# Altium footprint library memory-idt.PCBLIB: 54 footprints (part 2 of 4)
Each footprint in its own frame and in the unit in brackets; x right, y up, seen from the top. Pads: shape width x height; smd on the part's side, far side on the other; paste and mask are expansions set on the pad; w line width, h text height; cw(c..) or ccw(c..) is an arc to the next point about the centre after c.
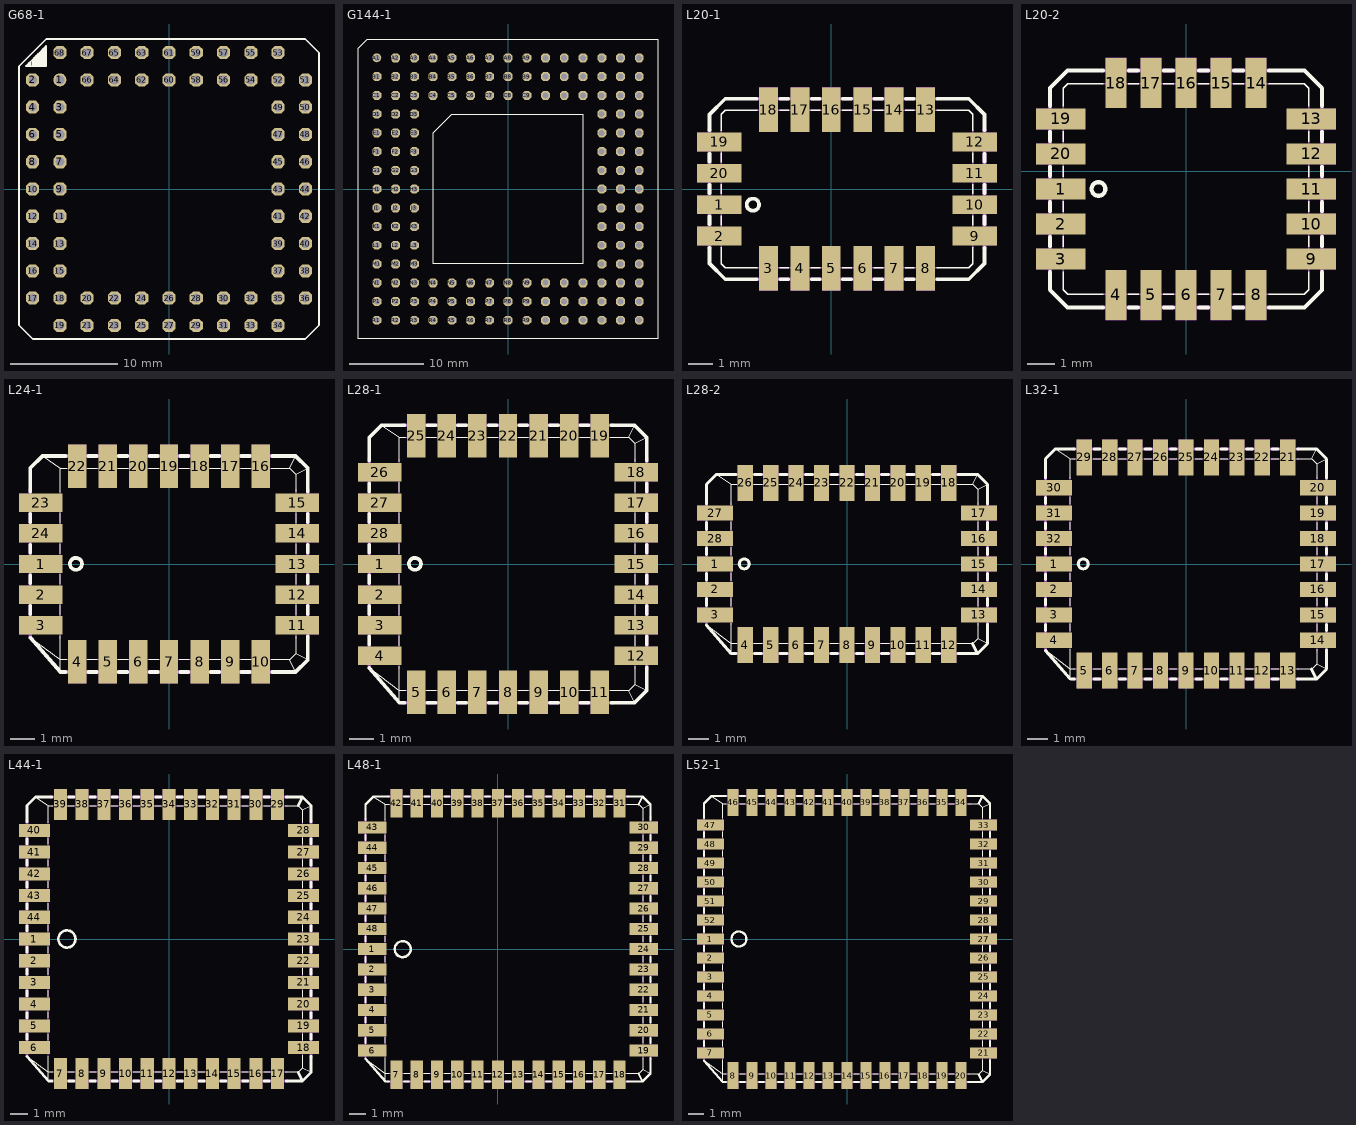
[diagram p1: the footprints below, top view; thin cyan lines are the x and y axes]

## G68-1 [mil]
pads (68):
  round 48 hole 32: 1(-400,400)
  oct 48x48 hole 32: 2(-500,400) 3(-400,300) 4(-500,300) 5(-400,200) 6(-500,200) 7(-400,100) 8(-500,100) 9(-400,0) 10(-500,0) 11(-400,-100) 12(-500,-100) 13(-400,-200) 14(-500,-200) 15(-400,-300) 16(-500,-300) 17(-500,-400) 18(-400,-400) 19(-400,-500) 20(-300,-400) 21(-300,-500) 22(-200,-400) 23(-200,-500) 24(-100,-400) 25(-100,-500) 26(0,-400) 27(0,-500) 28(100,-400) 29(100,-500) 30(200,-400) 31(200,-500) 32(300,-400) 33(300,-500) 34(400,-500) 35(400,-400) 36(500,-400) 37(400,-300) 38(500,-300) 39(400,-200) 40(500,-200) 41(400,-100) 42(500,-100) 43(400,0) 44(500,0) 45(400,100) 46(500,100) 47(400,200) 48(500,200) 49(400,300) 50(500,300) 51(500,400) 52(400,400) 53(400,500) 54(300,400) 55(300,500) 56(200,400) 57(200,500) 58(100,400) 59(100,500) 60(0,400) 61(0,500) 62(-100,400) 63(-100,500) 64(-200,400) 65(-200,500) 66(-300,400) 67(-300,500) 68(-400,500)
Top Overlay:
  lines w6: -518.74,450 -512.5,450 ; -518.74,450 -525,450 -518.74,456.26 ; -518.74,450 -518.74,456.26 ; -518.74,456.26 -512.5,462.5 ; -512.5,450 -506.26,450 ; -512.5,450 -512.5,462.5 ; -512.5,462.5 -506.26,468.74 ; -506.26,450 -500,450 ; -506.26,450 -506.26,468.74 ; -506.26,468.74 -500,475 ; -500,450 -493.74,450 ; -500,450 -500,475 ; -500,475 -493.74,481.26 ; -493.74,450 -487.5,450 ; -493.74,450 -493.74,481.26 ; -493.74,481.26 -487.5,487.5 ; -487.5,450 -481.26,450 ; -487.5,450 -487.5,487.5 ; -487.5,487.5 -481.26,493.74 ; -481.26,450 -475,450 ; -481.26,450 -481.26,493.74 ; -481.26,493.74 -475,500 ; -475,450 -468.74,450 ; -475,450 -475,500 ; -475,500 -468.74,506.26 ; -468.74,450 -462.5,450 ; -468.74,450 -468.74,506.26 ; -468.74,506.26 -462.5,512.5 ; -462.5,450 -456.26,450 ; -462.5,450 -462.5,512.5 ; -462.5,512.5 -456.26,518.74 ; -456.26,450 -450,450 -450,525 -456.26,518.74 ; -456.26,450 -456.26,518.74 ; -550,-500 -500,-550 500,-550 550,-500 550,500 500,550 -450,550 -550,450 -550,-500

## G144-1 [mil]
pads (144):
  round 48 hole 32: A1(-700,700)
  oct 48x48 hole 32: A2(-600,700) A3(-500,700) A4(-400,700) A5(-300,700) A6(-200,700) A7(-100,700) A8(0,700) A9(100,700) A10(200,700) A11(300,700) A12(400,700) A13(500,700) A14(600,700) A15(700,700) B1(-700,600) B2(-600,600) B3(-500,600) B4(-400,600) B5(-300,600) B6(-200,600) B7(-100,600) B8(0,600) B9(100,600) B10(200,600) B11(300,600) B12(400,600) B13(500,600) B14(600,600) B15(700,600) C1(-700,500) C2(-600,500) C3(-500,500) C4(-400,500) C5(-300,500) C6(-200,500) C7(-100,500) C8(0,500) C9(100,500) C10(200,500) C11(300,500) C12(400,500) C13(500,500) C14(600,500) C15(700,500) D1(-700,400) D2(-600,400) D3(-500,400) D13(500,400) D14(600,400) D15(700,400) E1(-700,300) E2(-600,300) E3(-500,300) E13(500,300) E14(600,300) E15(700,300) F1(-700,200) F2(-600,200) F3(-500,200) F13(500,200) F14(600,200) F15(700,200) G1(-700,100) G2(-600,100) G3(-500,100) G13(500,100) G14(600,100) G15(700,100) H1(-700,0) H2(-600,0) H3(-500,0) H13(500,0) H14(600,0) H15(700,0) J1(-700,-100) J2(-600,-100) J3(-500,-100) J13(500,-100) J14(600,-100) J15(700,-100) K1(-700,-200) K2(-600,-200) K3(-500,-200) K13(500,-200) K14(600,-200) K15(700,-200) L1(-700,-300) L2(-600,-300) L3(-500,-300) L13(500,-300) L14(600,-300) L15(700,-300) M1(-700,-400) M2(-600,-400) M3(-500,-400) M13(500,-400) M14(600,-400) M15(700,-400) N1(-700,-500) N2(-600,-500) N3(-500,-500) N4(-400,-500) N5(-300,-500) N6(-200,-500) N7(-100,-500) N8(0,-500) N9(100,-500) N10(200,-500) N11(300,-500) N12(400,-500) N13(500,-500) N14(600,-500) N15(700,-500) P1(-700,-600) P2(-600,-600) P3(-500,-600) P4(-400,-600) P5(-300,-600) P6(-200,-600) P7(-100,-600) P8(0,-600) P9(100,-600) P10(200,-600) P11(300,-600) P12(400,-600) P13(500,-600) P14(600,-600) P15(700,-600) R1(-700,-700) R2(-600,-700) R3(-500,-700) R4(-400,-700) R5(-300,-700) R6(-200,-700) R7(-100,-700) R8(0,-700) R9(100,-700) R10(200,-700) R11(300,-700) R12(400,-700) R13(500,-700) R14(600,-700) R15(700,-700)
Top Overlay:
  lines w6: -800,-800 800,-800 800,800 -750,800 -800,750 -800,-800 ; -400,-400 400,-400 400,400 -300,400 -400,300 -400,-400

## L20-1 [mil]
pads (20):
  rect 70.87x29.92 smd: 1(-178.35,-25) 2(-178.35,-75) 9(228.35,-75) 10(228.35,-25) 11(228.35,25) 12(228.35,75) 19(-178.35,75) 20(-178.35,25)
  rect 29.92x70.87 smd: 3(-100,-125.98) 4(-50,-125.98) 5(0,-125.98) 6(50,-125.98) 7(100,-125.98) 8(150,-125.98) 13(150,125.98) 14(100,125.98) 15(50,125.98) 16(0,125.98) 17(-50,125.98) 18(-100,125.98)
Top Overlay:
  lines w2: -175,-92.64 -175,-118.74 -168.74,-125 -117.76,-125 ; -175,-57.36 -175,-42.64 ; -175,-7.36 -175,7.36 ; -175,42.64 -175,57.36 ; -175,92.64 -175,118.74 -168.74,125 -117.64,125 ; -82.36,-125 -67.64,-125 ; -82.36,125 -67.64,125 ; -32.36,-125 -17.64,-125 ; -32.36,125 -17.64,125 ; 17.64,-125 32.36,-125 ; 17.64,125 32.36,125 ; 67.64,-125 82.36,-125 ; 67.64,125 82.36,125 ; 117.64,-125 132.36,-125 ; 117.64,125 132.36,125 ; 167.64,-125 218.74,-125 225,-118.74 225,-92.64 ; 167.64,125 218.74,125 225,118.74 225,92.64 ; 225,-57.36 225,-42.64 ; 225,-7.36 225,7.36 ; 225,42.64 225,57.36
  lines w6: -193.74,-93.74 -193.74,-118.74 -168.74,-143.74 -118.74,-143.74 ; -193.74,-56.26 -193.74,-43.74 ; -193.74,-6.26 -193.75,6.25 ; -193.75,43.75 -193.75,56.25 ; -193.75,93.75 -193.75,118.75 -168.75,143.75 -118.75,143.75 ; -134.61,-25.16 cw(c-124.77,-25.16) -114.92,-25.16 ; -134.61,-24.84 ccw(c-124.77,-24.84) -114.92,-24.84 ; -81.26,-143.74 -68.74,-143.74 ; -81.25,143.75 -68.75,143.75 ; -31.26,-143.74 -18.74,-143.74 ; -31.25,143.75 -18.75,143.75 ; 18.75,-143.75 31.25,-143.75 ; 18.74,143.74 31.26,143.74 ; 68.75,-143.75 81.25,-143.75 ; 68.74,143.74 81.26,143.74 ; 118.75,-143.75 131.25,-143.75 ; 118.74,143.74 131.26,143.74 ; 168.75,-143.75 218.75,-143.75 243.75,-118.75 243.75,-93.75 ; 168.74,143.74 218.74,143.74 243.74,118.74 243.74,93.74 ; 243.75,-56.25 243.75,-43.75 ; 243.75,-6.25 243.74,6.26 ; 243.74,43.74 243.74,56.26
Mechanical 16:
  rectangle: -114.96,144.88 -85.04,162.6
  rectangle: -64.96,144.88 -35.04,162.6
  rectangle: -14.96,144.88 14.96,162.6
  rectangle: 35.04,144.88 64.96,162.6
  rectangle: 85.04,144.88 114.96,162.6
  rectangle: -114.96,-162.6 -85.04,-144.88
  rectangle: -64.96,-162.6 -35.04,-144.88
  rectangle: -14.96,-162.6 14.96,-144.88
  rectangle: 35.04,-162.6 64.96,-144.88
  rectangle: 85.04,-162.6 114.96,-144.88
  rectangle: 246.06,60.04 263.78,89.96
  rectangle: 246.06,10.04 263.78,39.96
  rectangle: 246.06,-39.96 263.78,-10.04
  rectangle: 246.06,-89.96 263.78,-60.04
  rectangle: -213.78,60.04 -196.06,89.96
  rectangle: -213.78,10.04 -196.06,39.96
  rectangle: -213.78,-39.96 -196.06,-10.04
  rectangle: -213.78,-89.96 -196.06,-60.04
  rectangle: 135.04,144.88 164.96,162.6
  rectangle: 135.04,-162.6 164.96,-144.88
  lines w2: -175,-93.74 -175,93.74 ; -118.74,-125 168.74,-125 ; -118.74,125 168.74,125 ; 225,-93.74 225,93.74
  lines w6: -193.74,-93.74 -193.75,93.75 ; -118.74,-143.74 168.75,-143.75 ; -118.75,143.75 168.74,143.74 ; 37.4,144.88 62.6,144.88 ; 87.4,144.88 112.6,144.88 ; 137.4,144.88 162.6,144.88 ; 243.75,-93.75 243.74,93.74

## L20-2 [mil]
pads (20):
  rect 70.87x29.92 smd: 1(-178.35,-25) 2(-178.35,-75) 3(-178.35,-125) 9(178.35,-125) 10(178.35,-75) 11(178.35,-25) 12(178.35,25) 13(178.35,75) 19(-178.35,75) 20(-178.35,25)
  rect 29.92x70.87 smd: 4(-100,-175.98) 5(-50,-175.98) 6(0,-175.98) 7(50,-175.98) 8(100,-175.98) 14(100,125.98) 15(50,125.98) 16(0,125.98) 17(-50,125.98) 18(-100,125.98)
Top Overlay:
  lines w2: -175,-142.64 -175,-168.74 -168.74,-175 -117.76,-175 ; -175,-107.36 -175,-92.64 ; -175,-57.36 -175,-42.64 ; -175,-7.36 -175,7.36 ; -175,42.64 -175,57.36 ; -175,92.64 -175,118.74 -168.74,125 -117.64,125 ; -82.36,-175 -67.64,-175 ; -82.36,125 -67.64,125 ; -32.36,-175 -17.64,-175 ; -32.36,125 -17.64,125 ; 17.64,-175 32.36,-175 ; 17.64,125 32.36,125 ; 67.64,-175 82.36,-175 ; 67.64,125 82.36,125 ; 117.64,-175 168.74,-175 175,-168.74 175,-142.64 ; 117.64,125 168.74,125 175,118.74 175,92.64 ; 175,-107.36 175,-92.64 ; 175,-57.36 175,-42.64 ; 175,-7.36 175,7.36 ; 175,42.64 175,57.36
  lines w6: -193.74,-143.74 -193.74,-168.74 -168.74,-193.74 -118.74,-193.74 ; -193.74,-106.26 -193.74,-93.74 ; -193.74,-56.26 -193.74,-43.74 ; -193.74,-6.26 -193.75,6.25 ; -193.75,43.75 -193.75,56.25 ; -193.75,93.75 -193.75,118.75 -168.75,143.75 -118.75,143.75 ; -134.61,-25.04 cw(c-124.77,-25.1) -114.92,-25.16 ; -134.61,-24.84 ccw(c-124.77,-24.88) -114.92,-24.92 ; -81.26,-193.74 -68.74,-193.74 ; -81.25,143.75 -68.75,143.75 ; -31.26,-193.74 -18.74,-193.74 ; -31.25,143.75 -18.75,143.75 ; 18.75,-193.75 31.25,-193.75 ; 18.74,143.74 31.26,143.74 ; 68.75,-193.75 81.25,-193.75 ; 68.74,143.74 81.26,143.74 ; 118.75,-193.75 168.75,-193.75 193.75,-168.75 193.75,-143.75 ; 118.74,143.74 168.74,143.74 193.74,118.74 193.74,93.74 ; 193.75,-106.25 193.75,-93.75 ; 193.75,-56.25 193.75,-43.75 ; 193.75,-6.25 193.74,6.26 ; 193.74,43.74 193.74,56.26
Mechanical 16:
  rectangle: -114.96,144.88 -85.04,162.6
  rectangle: -64.96,144.88 -35.04,162.6
  rectangle: -14.96,144.88 14.96,162.6
  rectangle: 35.04,144.88 64.96,162.6
  rectangle: 85.04,144.88 114.96,162.6
  rectangle: -114.96,-212.6 -85.04,-194.88
  rectangle: -64.96,-212.6 -35.04,-194.88
  rectangle: -14.96,-212.6 14.96,-194.88
  rectangle: 35.04,-212.6 64.96,-194.88
  rectangle: 85.04,-212.6 114.96,-194.88
  rectangle: 196.06,60.04 213.78,89.96
  rectangle: 196.06,10.04 213.78,39.96
  rectangle: 196.06,-39.96 213.78,-10.04
  rectangle: 196.06,-89.96 213.78,-60.04
  rectangle: -213.78,60.04 -196.06,89.96
  rectangle: -213.78,10.04 -196.06,39.96
  rectangle: -213.78,-39.96 -196.06,-10.04
  rectangle: -213.78,-89.96 -196.06,-60.04
  rectangle: -213.78,-89.96 -196.06,-60.04
  rectangle: 196.06,-139.96 213.78,-110.04
  rectangle: -213.78,-139.96 -196.06,-110.04
  lines w2: -175,-143.74 -175,93.74 ; -118.74,-175 118.74,-175 ; -118.74,125 118.74,125 ; 175,-143.74 175,93.74
  lines w6: -193.74,-143.74 -193.75,93.75 ; -118.74,-193.74 118.75,-193.75 ; -118.75,143.75 118.74,143.74 ; 37.4,144.88 62.6,144.88 ; 193.75,-143.75 193.74,93.74

## L24-1 [mil]
pads (24):
  rect 70.87x29.92 smd: 1(-209.45,0) 2(-209.45,-50) 3(-209.45,-100) 11(209.45,-100) 12(209.45,-50) 13(209.45,0) 14(209.45,50) 15(209.45,100) 23(-209.45,100) 24(-209.45,50)
  rect 29.92x70.87 smd: 4(-150,-159.45) 5(-100,-159.45) 6(-50,-159.45) 7(0,-159.45) 8(50,-159.45) 9(100,-159.45) 10(150,-159.45) 16(150,159.45) 17(100,159.45) 18(50,159.45) 19(0,159.45) 20(-50,159.45) 21(-100,159.45) 22(-150,159.45)
Top Overlay:
  lines w2: -226.34,-120.12 -177.17,-156.69 ; -206.69,176.38 -177.17,156.69 ; -177.17,-176.38 -177.17,-156.69 ; -177.17,-116.73 -177.17,-156.69 ; -177.17,-83.27 -177.17,-66.73 ; -177.17,-33.27 -177.17,-16.73 ; -177.17,16.73 -177.17,33.27 ; -177.17,66.73 -177.17,83.27 ; -177.17,116.73 -177.17,156.69 ; -166.73,-156.69 -177.17,-156.69 ; -166.73,156.69 -177.17,156.69 ; -133.27,-156.69 -116.73,-156.69 ; -133.27,156.69 -116.73,156.69 ; -83.27,-156.69 -66.73,-156.69 ; -83.27,156.69 -66.73,156.69 ; -33.27,-156.69 -16.73,-156.69 ; -33.27,156.69 -16.73,156.69 ; 16.73,-156.69 33.27,-156.69 ; 16.73,156.69 33.27,156.69 ; 66.73,-156.69 83.27,-156.69 ; 66.73,156.69 83.27,156.69 ; 116.73,-156.69 133.27,-156.69 ; 116.73,156.69 133.27,156.69 ; 166.73,-156.69 196.85,-156.69 ; 166.73,156.69 196.85,156.69 ; 206.69,-176.38 196.85,-156.69 ; 206.69,-116.73 206.69,-146.85 ; 206.69,-83.27 206.69,-66.73 ; 206.69,-33.27 206.69,-16.73 ; 206.69,16.73 206.69,33.27 ; 206.69,66.73 206.69,83.27 ; 206.69,116.73 206.69,146.85 ; 206.69,176.38 196.85,156.69 ; 226.38,-156.69 206.69,-146.85 ; 226.38,156.69 206.69,146.85 ; 196.85,-156.69 206.69,-146.85 ; 196.85,156.69 206.69,146.85
  lines w6: -226.38,-81.69 -226.38,-68.31 ; -226.38,-31.69 -226.38,-18.31 ; -226.38,18.31 -226.38,31.69 ; -226.38,68.31 -226.38,81.69 ; -226.38,118.31 -226.38,156.69 -206.69,176.38 -168.31,176.38 ; -226.18,-120.28 -177.17,-176.38 -168.31,-176.38 ; -161.81,0.16 cw(c-151.97,0.1) -142.13,0.04 ; -161.81,0.35 ccw(c-151.97,0.32) -142.13,0.28 ; -131.69,-176.38 -118.31,-176.38 ; -131.69,176.38 -118.31,176.38 ; -81.69,-176.38 -68.31,-176.38 ; -81.69,176.38 -68.31,176.38 ; -31.69,-176.38 -18.31,-176.38 ; -31.69,176.38 -18.31,176.38 ; 18.31,-176.38 31.69,-176.38 ; 18.31,176.38 31.69,176.38 ; 68.31,-176.38 81.69,-176.38 ; 68.31,176.38 81.69,176.38 ; 118.31,-176.38 131.69,-176.38 ; 118.31,176.38 131.69,176.38 ; 168.31,-176.38 206.69,-176.38 226.38,-156.69 226.38,-118.31 ; 168.31,176.38 206.69,176.38 226.38,156.69 226.38,118.31 ; 226.38,-81.69 226.38,-68.31 ; 226.38,-31.69 226.38,-18.31 ; 226.38,18.31 226.38,31.69 ; 226.38,68.31 226.38,81.69
Mechanical 16:
  rectangle: -164.96,176.38 -135.04,194.88
  rectangle: -114.96,176.38 -85.04,194.88
  rectangle: -64.96,176.38 -35.04,194.88
  rectangle: -14.96,176.38 14.96,194.88
  rectangle: 35.04,176.38 64.96,194.88
  rectangle: 85.04,176.38 114.96,194.88
  rectangle: 135.04,176.38 164.96,194.88
  rectangle: 226.38,85.04 244.88,114.96
  rectangle: 226.38,35.04 244.88,64.96
  rectangle: 226.38,-14.96 244.88,14.96
  rectangle: 226.38,-64.96 244.88,-35.04
  rectangle: 226.38,-114.96 244.88,-85.04
  rectangle: -164.96,-194.88 -135.04,-176.38
  rectangle: -114.96,-194.88 -85.04,-176.38
  rectangle: -64.96,-194.88 -35.04,-176.38
  rectangle: -14.96,-194.88 14.96,-176.38
  rectangle: 35.04,-194.88 64.96,-176.38
  rectangle: 85.04,-194.88 114.96,-176.38
  rectangle: 135.04,-194.88 164.96,-176.38
  rectangle: -244.88,85.04 -226.38,114.96
  rectangle: -244.88,35.04 -226.38,64.96
  rectangle: -244.88,-14.96 -226.38,14.96
  rectangle: -244.88,-64.96 -226.38,-35.04
  rectangle: -244.88,-114.96 -226.38,-85.04
  lines w2: -177.17,-121.65 -177.17,119.88 ; -170.87,-156.69 171.85,-156.69 ; -170.71,156.69 171.85,156.69 ; 206.69,-121.85 206.69,121.85
  lines w6: -226.38,-119.96 -226.38,121.69 ; -171.69,176.38 171.69,176.38 ; -167.17,-176.38 166.69,-176.38 ; 226.38,-121.69 226.38,121.69

## L28-1 [mil]
pads (28):
  rect 70.87x29.92 smd: 1(-209.45,0) 2(-209.45,-50) 3(-209.45,-100) 4(-209.45,-150) 12(209.45,-150) 13(209.45,-100) 14(209.45,-50) 15(209.45,0) 16(209.45,50) 17(209.45,100) 18(209.45,150) 26(-209.45,150) 27(-209.45,100) 28(-209.45,50)
  rect 29.92x70.87 smd: 5(-150,-209.45) 6(-100,-209.45) 7(-50,-209.45) 8(0,-209.45) 9(50,-209.45) 10(100,-209.45) 11(150,-209.45) 19(150,209.45) 20(100,209.45) 21(50,209.45) 22(0,209.45) 23(-50,209.45) 24(-100,209.45) 25(-150,209.45)
Top Overlay:
  lines w2: -225.55,-170.32 -177.17,-206.69 ; -206.69,226.38 -177.17,206.69 ; -177.17,-226.38 -177.17,-206.69 ; -177.17,-166.73 -177.17,-206.69 ; -177.17,-133.27 -177.17,-116.73 ; -177.17,-83.27 -177.17,-66.73 ; -177.17,-33.27 -177.17,-16.73 ; -177.17,16.73 -177.17,33.27 ; -177.17,66.73 -177.17,83.27 ; -177.17,116.73 -177.17,133.27 ; -177.17,166.73 -177.17,206.69 ; -166.73,-206.69 -177.17,-206.69 ; -166.73,206.69 -177.17,206.69 ; -133.27,-206.69 -116.73,-206.69 ; -133.27,206.69 -116.73,206.69 ; -83.27,-206.69 -66.73,-206.69 ; -83.27,206.69 -66.73,206.69 ; -33.27,-206.69 -16.73,-206.69 ; -33.27,206.69 -16.73,206.69 ; 16.73,-206.69 33.27,-206.69 ; 16.73,206.69 33.27,206.69 ; 66.73,-206.69 83.27,-206.69 ; 66.73,206.69 83.27,206.69 ; 116.73,-206.69 133.27,-206.69 ; 116.73,206.69 133.27,206.69 ; 166.73,-206.69 196.85,-206.69 ; 166.73,206.69 196.85,206.69 ; 206.69,-226.38 196.85,-206.69 ; 206.69,-166.73 206.69,-196.85 ; 206.69,-133.27 206.69,-116.73 ; 206.69,-83.27 206.69,-66.73 ; 206.69,-33.27 206.69,-16.73 ; 206.69,16.73 206.69,33.27 ; 206.69,66.73 206.69,83.27 ; 206.69,116.73 206.69,133.27 ; 206.69,166.73 206.69,196.85 ; 206.69,226.38 196.85,206.69 ; 226.38,-206.69 206.69,-196.85 ; 226.38,206.69 206.69,196.85 ; 196.85,-206.69 206.69,-196.85 ; 196.85,206.69 206.69,196.85
  lines w6: -226.38,-169.88 -177.17,-226.38 -168.31,-226.38 ; -226.38,-131.69 -226.38,-118.31 ; -226.38,-81.69 -226.38,-68.31 ; -226.38,-31.69 -226.38,-18.31 ; -226.38,18.31 -226.38,31.69 ; -226.38,68.31 -226.38,81.69 ; -226.38,118.31 -226.38,131.69 ; -226.38,168.31 -226.38,206.69 -206.69,226.38 -168.31,226.38 ; -161.81,0.16 cw(c-151.97,0.1) -142.13,0.04 ; -161.81,0.35 ccw(c-151.97,0.32) -142.13,0.28 ; -131.69,-226.38 -118.31,-226.38 ; -131.69,226.38 -118.31,226.38 ; -81.69,-226.38 -68.31,-226.38 ; -81.69,226.38 -68.31,226.38 ; -31.69,-226.38 -18.31,-226.38 ; -31.69,226.38 -18.31,226.38 ; 18.31,-226.38 31.69,-226.38 ; 18.31,226.38 31.69,226.38 ; 68.31,-226.38 81.69,-226.38 ; 68.31,226.38 81.69,226.38 ; 118.31,-226.38 131.69,-226.38 ; 118.31,226.38 131.69,226.38 ; 168.31,-226.38 206.69,-226.38 226.38,-206.69 226.38,-168.31 ; 168.31,226.38 206.69,226.38 226.38,206.69 226.38,168.31 ; 226.38,-131.69 226.38,-118.31 ; 226.38,-81.69 226.38,-68.31 ; 226.38,-31.69 226.38,-18.31 ; 226.38,18.31 226.38,31.69 ; 226.38,68.31 226.38,81.69 ; 226.38,118.31 226.38,131.69
Mechanical 16:
  rectangle: -164.96,226.38 -135.04,244.88
  rectangle: -114.96,226.38 -85.04,244.88
  rectangle: -64.96,226.38 -35.04,244.88
  rectangle: -14.96,226.38 14.96,244.88
  rectangle: 35.04,226.38 64.96,244.88
  rectangle: 85.04,226.38 114.96,244.88
  rectangle: 135.04,226.38 164.96,244.88
  rectangle: 226.38,135.04 244.88,164.96
  rectangle: 226.38,85.04 244.88,114.96
  rectangle: 226.38,35.04 244.88,64.96
  rectangle: 226.38,-14.96 244.88,14.96
  rectangle: 226.38,-64.96 244.88,-35.04
  rectangle: 226.38,-114.96 244.88,-85.04
  rectangle: 226.38,-164.96 244.88,-135.04
  rectangle: -164.96,-244.88 -135.04,-226.38
  rectangle: -114.96,-244.88 -85.04,-226.38
  rectangle: -64.96,-244.88 -35.04,-226.38
  rectangle: -14.96,-244.88 14.96,-226.38
  rectangle: 35.04,-244.88 64.96,-226.38
  rectangle: 85.04,-244.88 114.96,-226.38
  rectangle: 135.04,-244.88 164.96,-226.38
  rectangle: -244.88,135.04 -226.38,164.96
  rectangle: -244.88,85.04 -226.38,114.96
  rectangle: -244.88,35.04 -226.38,64.96
  rectangle: -244.88,-14.96 -226.38,14.96
  rectangle: -244.88,-64.96 -226.38,-35.04
  rectangle: -244.88,-114.96 -226.38,-85.04
  rectangle: -244.88,-164.96 -226.38,-135.04
  lines w2: -177.17,-171.06 -177.17,170.79 ; -174.25,-206.69 171.85,-206.69 ; -172.28,206.69 171.85,206.69 ; 206.69,-171.85 206.69,171.85
  lines w6: -226.38,-169.96 -226.38,171.69 ; -172.17,-226.38 171.69,-226.38 ; -171.69,226.38 171.69,226.38 ; 226.38,-171.69 226.38,171.69

## L28-2 [mil]
pads (28):
  rect 70.87x29.92 smd: 1(-259.45,0) 2(-259.45,-50) 3(-259.45,-100) 13(259.45,-100) 14(259.45,-50) 15(259.45,0) 16(259.45,50) 17(259.45,100) 27(-259.45,100) 28(-259.45,50)
  rect 29.92x70.87 smd: 4(-200,-159.45) 5(-150,-159.45) 6(-100,-159.45) 7(-50,-159.45) 8(0,-159.45) 9(50,-159.45) 10(100,-159.45) 11(150,-159.45) 12(200,-159.45) 18(200,159.45) 19(150,159.45) 20(100,159.45) 21(50,159.45) 22(0,159.45) 23(-50,159.45) 24(-100,159.45) 25(-150,159.45) 26(-200,159.45)
Top Overlay:
  lines w2: -276.18,-120.12 -227.17,-156.69 ; -256.69,176.38 -227.17,156.69 ; -227.17,-176.38 -227.17,-156.69 ; -227.17,-116.73 -227.17,-156.69 ; -227.17,-83.27 -227.17,-66.73 ; -227.17,-33.27 -227.17,-16.73 ; -227.17,16.73 -227.17,33.27 ; -227.17,66.73 -227.17,83.27 ; -227.17,116.73 -227.17,156.69 ; -216.73,-156.69 -227.17,-156.69 ; -216.73,156.69 -227.17,156.69 ; -183.27,-156.69 -166.73,-156.69 ; -183.27,156.69 -166.73,156.69 ; -133.27,-156.69 -116.73,-156.69 ; -133.27,156.69 -116.73,156.69 ; -83.27,-156.69 -66.73,-156.69 ; -83.27,156.69 -66.73,156.69 ; -33.27,-156.69 -16.73,-156.69 ; -33.27,156.69 -16.73,156.69 ; 16.73,-156.69 33.27,-156.69 ; 16.73,156.69 33.27,156.69 ; 66.73,-156.69 83.27,-156.69 ; 66.73,156.69 83.27,156.69 ; 116.73,-156.69 133.27,-156.69 ; 116.73,156.69 133.27,156.69 ; 166.73,-156.69 183.27,-156.69 ; 166.73,156.69 183.27,156.69 ; 216.73,-156.69 246.85,-156.69 256.69,-146.85 ; 216.73,156.69 246.85,156.69 ; 256.69,-116.73 256.69,-146.85 ; 256.69,-83.27 256.69,-66.73 ; 256.69,-33.27 256.69,-16.73 ; 256.69,16.73 256.69,33.27 ; 256.69,66.73 256.69,83.27 ; 256.69,116.73 256.69,146.85 ; 256.69,176.38 246.85,156.69 ; 276.38,-156.69 256.69,-146.85 ; 276.38,156.69 256.69,146.85 ; 246.85,156.69 256.69,146.85
  lines w6: -276.38,-119.88 -227.17,-176.38 -218.31,-176.38 ; -276.38,-81.69 -276.38,-68.31 ; -276.38,-31.69 -276.38,-18.31 ; -276.38,18.31 -276.38,31.69 ; -276.38,68.31 -276.38,81.69 ; -276.38,118.31 -276.38,156.69 -256.69,176.38 -218.31,176.38 ; -211.81,0.04 cw(c-201.97,0.04) -192.13,0.04 ; -211.81,0.35 ccw(c-201.97,0.32) -192.13,0.28 ; -181.69,-176.38 -168.31,-176.38 ; -181.69,176.38 -168.31,176.38 ; -131.69,-176.38 -118.31,-176.38 ; -131.69,176.38 -118.31,176.38 ; -81.69,-176.38 -68.31,-176.38 ; -81.69,176.38 -68.31,176.38 ; -31.69,-176.38 -18.31,-176.38 ; -31.69,176.38 -18.31,176.38 ; 18.31,-176.38 31.69,-176.38 ; 18.31,176.38 31.69,176.38 ; 68.31,-176.38 81.69,-176.38 ; 68.31,176.38 81.69,176.38 ; 118.31,-176.38 131.69,-176.38 ; 118.31,176.38 131.69,176.38 ; 168.31,-176.38 181.69,-176.38 ; 168.31,176.38 181.69,176.38 ; 218.31,-176.38 256.69,-176.38 ; 218.31,176.38 256.69,176.38 276.38,156.69 276.38,118.31 ; 246.85,-156.69 256.69,-176.38 ; 276.38,-118.31 276.38,-156.69 256.69,-176.38 ; 276.38,-81.69 276.38,-68.31 ; 276.38,-31.69 276.38,-18.31 ; 276.38,18.31 276.38,31.69 ; 276.38,68.31 276.38,81.69
Mechanical 16:
  rectangle: -214.96,176.38 -185.04,194.88
  rectangle: -164.96,176.38 -135.04,194.88
  rectangle: -114.96,176.38 -85.04,194.88
  rectangle: -64.96,176.38 -35.04,194.88
  rectangle: -14.96,176.38 14.96,194.88
  rectangle: 35.04,176.38 64.96,194.88
  rectangle: 85.04,176.38 114.96,194.88
  rectangle: 276.38,85.04 294.88,114.96
  rectangle: 276.38,35.04 294.88,64.96
  rectangle: 276.38,-14.96 294.88,14.96
  rectangle: 276.38,-64.96 294.88,-35.04
  rectangle: 276.38,-114.96 294.88,-85.04
  rectangle: -214.96,-194.88 -185.04,-176.38
  rectangle: -164.96,-194.88 -135.04,-176.38
  rectangle: -114.96,-194.88 -85.04,-176.38
  rectangle: -64.96,-194.88 -35.04,-176.38
  rectangle: -14.96,-194.88 14.96,-176.38
  rectangle: 35.04,-194.88 64.96,-176.38
  rectangle: 85.04,-194.88 114.96,-176.38
  rectangle: -294.88,85.04 -276.38,114.96
  rectangle: -294.88,35.04 -276.38,64.96
  rectangle: -294.88,-14.96 -276.38,14.96
  rectangle: -294.88,-64.96 -276.38,-35.04
  rectangle: -294.88,-114.96 -276.38,-85.04
  rectangle: 135.04,176.38 164.96,194.88
  rectangle: 185.04,176.38 214.96,194.88
  rectangle: 135.04,-194.88 164.96,-176.38
  rectangle: 185.04,-194.88 214.96,-176.38
  lines w2: -227.17,-119.21 -227.17,121.46 ; -222.68,-156.69 221.85,-156.69 ; -218.46,156.69 221.85,156.69 ; 256.69,-121.85 256.69,121.85
  lines w6: -276.38,-119.96 -276.38,121.69 ; -222.17,-176.38 221.69,-176.38 ; -221.69,176.38 221.69,176.38 ; 276.38,-121.69 276.38,121.69

## L32-1 [mil]
pads (32):
  rect 70.87x29.92 smd: 1(-259.45,0) 2(-259.45,-50) 3(-259.45,-100) 4(-259.45,-150) 14(259.45,-150) 15(259.45,-100) 16(259.45,-50) 17(259.45,0) 18(259.45,50) 19(259.45,100) 20(259.45,150) 30(-259.45,150) 31(-259.45,100) 32(-259.45,50)
  rect 29.92x70.87 smd: 5(-200,-209.45) 6(-150,-209.45) 7(-100,-209.45) 8(-50,-209.45) 9(0,-209.45) 10(50,-209.45) 11(100,-209.45) 12(150,-209.45) 13(200,-209.45) 21(200,209.45) 22(150,209.45) 23(100,209.45) 24(50,209.45) 25(0,209.45) 26(-50,209.45) 27(-100,209.45) 28(-150,209.45) 29(-200,209.45)
Top Overlay:
  lines w2: -275.94,-169.76 -227.17,-206.69 ; -256.69,226.38 -227.17,206.69 ; -227.17,-226.38 -227.17,-206.69 ; -227.17,-167.76 -227.17,-206.69 ; -227.17,-132.24 -227.17,-117.76 ; -227.17,-82.24 -227.17,-67.76 ; -227.17,-32.24 -227.17,-17.76 ; -227.17,17.76 -227.17,32.24 ; -227.17,67.76 -227.17,82.24 ; -227.17,117.76 -227.17,132.24 ; -227.17,167.76 -227.17,206.69 ; -217.76,-206.69 -227.17,-206.69 ; -217.76,206.69 -227.17,206.69 ; -182.24,-206.69 -167.76,-206.69 ; -182.24,206.69 -167.76,206.69 ; -132.24,-206.69 -117.76,-206.69 ; -132.24,206.69 -117.76,206.69 ; -82.24,-206.69 -67.76,-206.69 ; -82.24,206.69 -67.76,206.69 ; -32.24,-206.69 -17.76,-206.69 ; -32.24,206.69 -17.76,206.69 ; 17.76,-206.69 32.24,-206.69 ; 17.76,206.69 32.24,206.69 ; 67.76,-206.69 82.24,-206.69 ; 67.76,206.69 82.24,206.69 ; 117.76,-206.69 132.24,-206.69 ; 117.76,206.69 132.24,206.69 ; 167.76,-206.69 182.24,-206.69 ; 167.76,206.69 182.24,206.69 ; 217.76,-206.69 246.85,-206.69 256.69,-196.85 ; 217.76,206.69 246.85,206.69 ; 256.69,-167.76 256.69,-196.85 ; 256.69,-132.24 256.69,-117.76 ; 256.69,-82.24 256.69,-67.76 ; 256.69,-32.24 256.69,-17.76 ; 256.69,17.76 256.69,32.24 ; 256.69,67.76 256.69,82.24 ; 256.69,117.76 256.69,132.24 ; 256.69,167.76 256.69,196.85 ; 256.69,226.38 246.85,206.69 ; 276.38,-206.69 256.69,-196.85 ; 276.38,206.69 256.69,196.85 ; 246.85,206.69 256.69,196.85
  lines w6: -276.38,-169.72 -227.17,-226.38 -219.33,-226.38 ; -276.38,-130.67 -276.38,-119.33 ; -276.38,-80.67 -276.38,-69.33 ; -276.38,-30.67 -276.38,-19.33 ; -276.38,19.33 -276.38,30.67 ; -276.38,69.33 -276.38,80.67 ; -276.38,119.33 -276.38,130.67 ; -276.38,169.33 -276.38,206.69 -256.69,226.38 -219.33,226.38 ; -211.81,0.04 cw(c-201.97,0.04) -192.13,0.04 ; -211.81,0.35 ccw(c-201.97,0.32) -192.13,0.28 ; -180.67,-226.38 -169.33,-226.38 ; -180.67,226.38 -169.33,226.38 ; -130.67,-226.38 -119.33,-226.38 ; -130.67,226.38 -119.33,226.38 ; -80.67,-226.38 -69.33,-226.38 ; -80.67,226.38 -69.33,226.38 ; -30.67,-226.38 -19.33,-226.38 ; -30.67,226.38 -19.33,226.38 ; 19.33,-226.38 30.67,-226.38 ; 19.33,226.38 30.67,226.38 ; 69.33,-226.38 80.67,-226.38 ; 69.33,226.38 80.67,226.38 ; 119.33,-226.38 130.67,-226.38 ; 119.33,226.38 130.67,226.38 ; 169.33,-226.38 180.67,-226.38 ; 169.33,226.38 180.67,226.38 ; 219.33,-226.38 256.69,-226.38 ; 219.33,226.38 256.69,226.38 276.38,206.69 276.38,169.33 ; 246.85,-206.69 256.69,-226.38 ; 276.38,-169.33 276.38,-206.69 256.69,-226.38 ; 276.38,-130.67 276.38,-119.33 ; 276.38,-80.67 276.38,-69.33 ; 276.38,-30.67 276.38,-19.33 ; 276.38,19.33 276.38,30.67 ; 276.38,69.33 276.38,80.67 ; 276.38,119.33 276.38,130.67
Mechanical 16:
  rectangle: -114.96,226.38 -85.04,244.88
  rectangle: -64.96,226.38 -35.04,244.88
  rectangle: -14.96,226.38 14.96,244.88
  rectangle: 35.04,226.38 64.96,244.88
  rectangle: 85.04,226.38 114.96,244.88
  rectangle: 135.04,226.38 164.96,244.88
  rectangle: 185.04,226.38 214.96,244.88
  rectangle: 276.38,135.04 294.88,164.96
  rectangle: 276.38,85.04 294.88,114.96
  rectangle: 276.38,35.04 294.88,64.96
  rectangle: 276.38,-14.96 294.88,14.96
  rectangle: 276.38,-64.96 294.88,-35.04
  rectangle: 276.38,-114.96 294.88,-85.04
  rectangle: 276.38,-164.96 294.88,-135.04
  rectangle: -214.96,-244.88 -185.04,-226.38
  rectangle: -164.96,-244.88 -135.04,-226.38
  rectangle: -114.96,-244.88 -85.04,-226.38
  rectangle: -64.96,-244.88 -35.04,-226.38
  rectangle: -14.96,-244.88 14.96,-226.38
  rectangle: 35.04,-244.88 64.96,-226.38
  rectangle: 85.04,-244.88 114.96,-226.38
  rectangle: -294.88,135.04 -276.38,164.96
  rectangle: -294.88,85.04 -276.38,114.96
  rectangle: -294.88,35.04 -276.38,64.96
  rectangle: -294.88,-14.96 -276.38,14.96
  rectangle: -294.88,-64.96 -276.38,-35.04
  rectangle: -294.88,-114.96 -276.38,-85.04
  rectangle: -294.88,-164.96 -276.38,-135.04
  rectangle: -164.96,226.38 -135.04,244.88
  rectangle: -214.96,226.38 -185.04,244.88
  rectangle: 135.04,-244.88 164.96,-226.38
  rectangle: 185.04,-244.88 214.96,-226.38
  lines w2: -227.17,-167.13 -227.17,171.46 ; -223.07,206.69 221.85,206.69 ; -221.5,-206.69 221.85,-206.69 ; 256.69,-171.85 256.69,171.85
  lines w6: -276.38,-169.96 -276.38,171.69 ; -222.17,-226.38 221.69,-226.38 ; -221.69,226.38 221.69,226.38 ; 276.38,-171.69 276.38,171.69

## L44-1 [mil]
pads (44):
  rect 70.87x29.92 smd: 1(-309.45,0) 2(-309.45,-50) 3(-309.45,-100) 4(-309.45,-150) 5(-309.45,-200) 6(-309.45,-250) 18(309.45,-250) 19(309.45,-200) 20(309.45,-150) 21(309.45,-100) 22(309.45,-50) 23(309.45,0) 24(309.45,50) 25(309.45,100) 26(309.45,150) 27(309.45,200) 28(309.45,250) 40(-309.45,250) 41(-309.45,200) 42(-309.45,150) 43(-309.45,100) 44(-309.45,50)
  rect 29.92x70.87 smd: 7(-250,-309.45) 8(-200,-309.45) 9(-150,-309.45) 10(-100,-309.45) 11(-50,-309.45) 12(0,-309.45) 13(50,-309.45) 14(100,-309.45) 15(150,-309.45) 16(200,-309.45) 17(250,-309.45) 29(250,309.45) 30(200,309.45) 31(150,309.45) 32(100,309.45) 33(50,309.45) 34(0,309.45) 35(-50,309.45) 36(-100,309.45) 37(-150,309.45) 38(-200,309.45) 39(-250,309.45)
Top Overlay:
  circle w6: c-234.65,0 r19.69
  lines w2: -325.94,-270.55 -277.17,-306.69 ; -306.69,326.38 -277.17,306.69 ; -277.17,-326.38 -277.17,-306.69 ; -277.17,-269.33 -277.17,-306.69 ; -277.17,-232.24 -277.17,-217.76 ; -277.17,-182.24 -277.17,-167.76 ; -277.17,-132.24 -277.17,-117.76 ; -277.17,-82.24 -277.17,-67.76 ; -277.17,-32.24 -277.17,-17.76 ; -277.17,17.76 -277.17,32.24 ; -277.17,67.76 -277.17,82.24 ; -277.17,117.76 -277.17,132.24 ; -277.17,167.76 -277.17,182.24 ; -277.17,217.76 -277.17,232.24 ; -277.17,267.76 -277.17,306.69 ; -267.76,-306.69 -277.17,-306.69 ; -267.76,306.69 -277.17,306.69 ; -232.24,-306.69 -217.76,-306.69 ; -232.24,306.69 -217.76,306.69 ; -182.24,-306.69 -167.76,-306.69 ; -182.24,306.69 -167.76,306.69 ; -132.24,-306.69 -117.76,-306.69 ; -132.24,306.69 -117.76,306.69 ; -82.24,-306.69 -67.76,-306.69 ; -82.24,306.69 -67.76,306.69 ; -32.24,-306.69 -17.76,-306.69 ; -32.24,306.69 -17.76,306.69 ; 17.76,-306.69 32.24,-306.69 ; 17.76,306.69 32.24,306.69 ; 67.76,-306.69 82.24,-306.69 ; 67.76,306.69 82.24,306.69 ; 117.76,-306.69 132.24,-306.69 ; 117.76,306.69 132.24,306.69 ; 167.76,-306.69 182.24,-306.69 ; 167.76,306.69 182.24,306.69 ; 217.76,-306.69 232.24,-306.69 ; 217.76,306.69 232.24,306.69 ; 267.76,-306.69 296.85,-306.69 306.69,-296.85 ; 267.76,306.69 296.85,306.69 306.69,296.85 ; 306.69,-267.76 306.69,-296.85 ; 306.69,-232.24 306.69,-217.76 ; 306.69,-182.24 306.69,-167.76 ; 306.69,-132.24 306.69,-117.76 ; 306.69,-82.24 306.69,-67.76 ; 306.69,-32.24 306.69,-17.76 ; 306.69,17.76 306.69,32.24 ; 306.69,67.76 306.69,82.24 ; 306.69,117.76 306.69,132.24 ; 306.69,167.76 306.69,182.24 ; 306.69,217.76 306.69,232.24 ; 306.69,267.76 306.69,296.85 ; 326.38,-306.69 306.69,-296.85 ; 326.38,306.69 306.69,296.85
  lines w6: -326.38,-270.12 -277.17,-326.38 -269.33,-326.38 ; -326.38,-230.67 -326.38,-219.33 ; -326.38,-180.67 -326.38,-169.33 ; -326.38,-130.67 -326.38,-119.33 ; -326.38,-80.67 -326.38,-69.33 ; -326.38,-30.67 -326.38,-19.33 ; -326.38,19.33 -326.38,30.67 ; -326.38,69.33 -326.38,80.67 ; -326.38,119.33 -326.38,130.67 ; -326.38,169.33 -326.38,180.67 ; -326.38,219.33 -326.38,230.67 ; -326.38,269.33 -326.38,306.69 -306.69,326.38 -269.33,326.38 ; -230.67,-326.38 -219.33,-326.38 ; -230.67,326.38 -219.33,326.38 ; -180.67,-326.38 -169.33,-326.38 ; -180.67,326.38 -169.33,326.38 ; -130.67,-326.38 -119.33,-326.38 ; -130.67,326.38 -119.33,326.38 ; -80.67,-326.38 -69.33,-326.38 ; -80.67,326.38 -69.33,326.38 ; -30.67,-326.38 -19.33,-326.38 ; -30.67,326.38 -19.33,326.38 ; 19.33,-326.38 30.67,-326.38 ; 19.33,326.38 30.67,326.38 ; 69.33,-326.38 80.67,-326.38 ; 69.33,326.38 80.67,326.38 ; 119.33,-326.38 130.67,-326.38 ; 119.33,326.38 130.67,326.38 ; 169.33,-326.38 180.67,-326.38 ; 169.33,326.38 180.67,326.38 ; 219.33,-326.38 230.67,-326.38 ; 219.33,326.38 230.67,326.38 ; 269.33,-326.38 306.69,-326.38 ; 269.33,326.38 306.69,326.38 ; 296.85,-306.69 306.69,-326.38 ; 296.85,306.69 306.69,326.38 ; 326.38,-269.33 326.38,-306.69 306.69,-326.38 ; 326.38,-230.67 326.38,-219.33 ; 326.38,-180.67 326.38,-169.33 ; 326.38,-130.67 326.38,-119.33 ; 326.38,-80.67 326.38,-69.33 ; 326.38,-30.67 326.38,-19.33 ; 326.38,19.33 326.38,30.67 ; 326.38,69.33 326.38,80.67 ; 326.38,119.33 326.38,130.67 ; 326.38,169.33 326.38,180.67 ; 326.38,219.33 326.38,230.67 ; 326.38,269.33 326.38,306.69 306.69,326.38
Mechanical 16:
  rectangle: -114.96,326.38 -85.04,344.88
  rectangle: -64.96,326.38 -35.04,344.88
  rectangle: -14.96,326.38 14.96,344.88
  rectangle: 35.04,326.38 64.96,344.88
  rectangle: 85.04,326.38 114.96,344.88
  rectangle: 135.04,326.38 164.96,344.88
  rectangle: 185.04,326.38 214.96,344.88
  rectangle: 326.38,135.04 344.88,164.96
  rectangle: 326.38,85.04 344.88,114.96
  rectangle: 326.38,35.04 344.88,64.96
  rectangle: 326.38,-14.96 344.88,14.96
  rectangle: 326.38,-64.96 344.88,-35.04
  rectangle: 326.38,-114.96 344.88,-85.04
  rectangle: 326.38,-264.96 344.88,-235.04
  rectangle: -214.96,-344.88 -185.04,-326.38
  rectangle: -164.96,-344.88 -135.04,-326.38
  rectangle: -114.96,-344.88 -85.04,-326.38
  rectangle: -64.96,-344.88 -35.04,-326.38
  rectangle: -14.96,-344.88 14.96,-326.38
  rectangle: 35.04,-344.88 64.96,-326.38
  rectangle: 85.04,-344.88 114.96,-326.38
  rectangle: -344.88,135.04 -326.38,164.96
  rectangle: -344.88,85.04 -326.38,114.96
  rectangle: -344.88,35.04 -326.38,64.96
  rectangle: -344.88,-14.96 -326.38,14.96
  rectangle: -344.88,-64.96 -326.38,-35.04
  rectangle: -344.88,-114.96 -326.38,-85.04
  rectangle: -344.88,-264.96 -326.38,-235.04
  rectangle: -164.96,326.38 -135.04,344.88
  rectangle: -214.96,326.38 -185.04,344.88
  rectangle: 135.04,-344.88 164.96,-326.38
  rectangle: 185.04,-344.88 214.96,-326.38
  rectangle: -344.88,185.04 -326.38,214.96
  rectangle: -344.88,235.04 -326.38,264.96
  rectangle: -344.88,-164.96 -326.38,-135.04
  rectangle: -344.88,-214.96 -326.38,-185.04
  rectangle: 235.04,-344.88 264.96,-326.38
  rectangle: 326.38,-214.96 344.88,-185.04
  rectangle: 326.38,-164.96 344.88,-135.04
  rectangle: 326.38,185.04 344.88,214.96
  rectangle: 326.38,235.04 344.88,264.96
  rectangle: 235.04,326.38 264.96,344.88
  rectangle: -264.96,326.38 -235.04,344.88
  rectangle: -264.96,-344.88 -235.04,-326.38
  lines w2: -277.17,-269.29 -277.17,269.69 ; -270,-306.69 271.85,-306.69 ; -270,306.69 271.85,306.69 ; 306.69,-271.85 306.69,271.85
  lines w6: -326.38,-269.96 -326.38,271.69 ; -271.69,326.38 271.69,326.38 ; -267.17,-326.38 271.69,-326.38 ; 326.38,-271.69 326.38,271.69

## L48-1 [mil]
pads (48):
  rect 70.87x29.92 smd: 1(-309.45,0) 2(-309.45,-50) 3(-309.45,-100) 4(-309.45,-150) 5(-309.45,-200) 6(-309.45,-250) 19(359.45,-250) 20(359.45,-200) 21(359.45,-150) 22(359.45,-100) 23(359.45,-50) 24(359.45,0) 25(359.45,50) 26(359.45,100) 27(359.45,150) 28(359.45,200) 29(359.45,250) 30(359.45,300) 43(-309.45,300) 44(-309.45,250) 45(-309.45,200) 46(-309.45,150) 47(-309.45,100) 48(-309.45,50)
  rect 29.92x70.87 smd: 7(-250,-309.45) 8(-200,-309.45) 9(-150,-309.45) 10(-100,-309.45) 11(-50,-309.45) 12(0,-309.45) 13(50,-309.45) 14(100,-309.45) 15(150,-309.45) 16(200,-309.45) 17(250,-309.45) 18(300,-309.45) 31(300,359.45) 32(250,359.45) 33(200,359.45) 34(150,359.45) 35(100,359.45) 36(50,359.45) 37(0,359.45) 38(-50,359.45) 39(-100,359.45) 40(-150,359.45) 41(-200,359.45) 42(-250,359.45)
Top Overlay:
  circle w6: c-234.65,0 r19.69
  lines w2: -325.94,-270.94 -277.17,-306.69 ; -306.69,376.38 -277.17,356.69 ; -277.17,-326.38 -277.17,-306.69 ; -277.17,-267.76 -277.17,-306.69 ; -277.17,-232.24 -277.17,-217.76 ; -277.17,-182.24 -277.17,-167.76 ; -277.17,-132.24 -277.17,-117.76 ; -277.17,-82.24 -277.17,-67.76 ; -277.17,-32.24 -277.17,-17.76 ; -277.17,17.76 -277.17,32.24 ; -277.17,67.76 -277.17,82.24 ; -277.17,117.76 -277.17,132.24 ; -277.17,167.76 -277.17,182.24 ; -277.17,217.76 -277.17,232.24 ; -277.17,267.76 -277.17,282.24 ; -277.17,317.76 -277.17,356.69 ; -267.76,-306.69 -277.17,-306.69 ; -267.76,356.69 -277.17,356.69 ; -232.24,-306.69 -217.76,-306.69 ; -232.24,356.69 -217.76,356.69 ; -182.24,-306.69 -167.76,-306.69 ; -182.24,356.69 -167.76,356.69 ; -132.24,-306.69 -117.76,-306.69 ; -132.24,356.69 -117.76,356.69 ; -82.24,-306.69 -67.76,-306.69 ; -82.24,356.69 -67.76,356.69 ; -32.24,-306.69 -17.76,-306.69 ; -32.24,356.69 -17.76,356.69 ; 17.76,-306.69 32.24,-306.69 ; 17.76,356.69 32.24,356.69 ; 67.76,-306.69 82.24,-306.69 ; 67.76,356.69 82.24,356.69 ; 117.76,-306.69 132.24,-306.69 ; 117.76,356.69 132.24,356.69 ; 167.76,-306.69 182.24,-306.69 ; 167.76,356.69 182.24,356.69 ; 217.76,-306.69 232.24,-306.69 ; 217.76,356.69 232.24,356.69 ; 267.76,-306.69 282.24,-306.69 ; 267.76,356.69 282.24,356.69 ; 317.76,-306.69 346.85,-306.69 356.69,-296.85 ; 317.76,356.69 346.85,356.69 356.69,346.85 ; 356.69,-267.76 356.69,-296.85 ; 356.69,-232.24 356.69,-217.76 ; 356.69,-182.24 356.69,-167.76 ; 356.69,-131.26 356.69,-117.76 ; 356.69,-82.24 356.69,-67.76 ; 356.69,-32.24 356.69,-17.76 ; 356.69,17.76 356.69,32.24 ; 356.69,67.76 356.69,82.24 ; 356.69,117.76 356.69,132.24 ; 356.69,167.76 356.69,182.24 ; 356.69,217.76 356.69,232.24 ; 356.69,267.76 356.69,282.24 ; 356.69,317.76 356.69,346.85 ; 376.38,-306.69 356.69,-296.85 ; 376.38,356.69 356.69,346.85
  lines w6: -326.38,-270.12 -277.17,-326.38 -269.33,-326.38 ; -326.38,-230.67 -326.38,-219.33 ; -326.38,-180.67 -326.38,-169.33 ; -326.38,-130.67 -326.38,-119.33 ; -326.38,-80.67 -326.38,-69.33 ; -326.38,-30.67 -326.38,-19.33 ; -326.38,19.33 -326.38,30.67 ; -326.38,69.33 -326.38,80.67 ; -326.38,119.33 -326.38,130.67 ; -326.38,169.33 -326.38,180.67 ; -326.38,219.33 -326.38,230.67 ; -326.38,269.33 -326.38,280.67 ; -326.38,319.33 -326.38,356.69 -306.69,376.38 -269.33,376.38 ; -230.67,-326.38 -219.33,-326.38 ; -230.67,376.38 -219.33,376.38 ; -180.67,-326.38 -169.33,-326.38 ; -180.67,376.38 -169.33,376.38 ; -130.67,-326.38 -119.33,-326.38 ; -130.67,376.38 -119.33,376.38 ; -80.67,-326.38 -69.33,-326.38 ; -80.67,376.38 -69.33,376.38 ; -30.67,-326.38 -19.33,-326.38 ; -30.67,376.38 -19.33,376.38 ; 19.33,-326.38 30.67,-326.38 ; 19.33,376.38 30.67,376.38 ; 69.33,-326.38 80.67,-326.38 ; 69.33,376.38 80.67,376.38 ; 119.33,-326.38 130.67,-326.38 ; 119.33,376.38 130.67,376.38 ; 169.33,-326.38 180.67,-326.38 ; 169.33,376.38 180.67,376.38 ; 219.33,-326.38 230.67,-326.38 ; 219.33,376.38 230.67,376.38 ; 269.33,-326.38 280.67,-326.38 ; 269.33,376.38 280.67,376.38 ; 319.33,-326.38 356.69,-326.38 ; 319.33,376.38 356.69,376.38 ; 346.85,-306.69 356.69,-326.38 ; 346.85,356.69 356.69,376.38 ; 376.38,-269.33 376.38,-306.69 356.69,-326.38 ; 376.38,-230.67 376.38,-219.33 ; 376.38,-180.67 376.38,-169.33 ; 376.38,-130.67 376.38,-119.33 ; 376.38,-80.67 376.38,-69.33 ; 376.38,-30.67 376.38,-19.33 ; 376.38,19.33 376.38,30.67 ; 376.38,69.33 376.38,80.67 ; 376.38,119.33 376.38,130.67 ; 376.38,169.33 376.38,180.67 ; 376.38,219.33 376.38,230.67 ; 376.38,269.33 376.38,280.67 ; 376.38,319.33 376.38,356.69 356.69,376.38
Mechanical 16:
  rectangle: -114.96,376.38 -85.04,394.88
  rectangle: -64.96,376.38 -35.04,394.88
  rectangle: -14.96,376.38 14.96,394.88
  rectangle: 35.04,376.38 64.96,394.88
  rectangle: 85.04,376.38 114.96,394.88
  rectangle: 135.04,376.38 164.96,394.88
  rectangle: 185.04,376.38 214.96,394.88
  rectangle: 376.38,135.04 394.88,164.96
  rectangle: 376.38,85.04 394.88,114.96
  rectangle: 376.38,35.04 394.88,64.96
  rectangle: 376.38,-14.96 394.88,14.96
  rectangle: 376.38,-64.96 394.88,-35.04
  rectangle: 376.38,-114.96 394.88,-85.04
  rectangle: 376.38,-264.96 394.88,-235.04
  rectangle: -214.96,-344.88 -185.04,-326.38
  rectangle: -164.96,-344.88 -135.04,-326.38
  rectangle: -114.96,-344.88 -85.04,-326.38
  rectangle: -64.96,-344.88 -35.04,-326.38
  rectangle: -14.96,-344.88 14.96,-326.38
  rectangle: 35.04,-344.88 64.96,-326.38
  rectangle: 85.04,-344.88 114.96,-326.38
  rectangle: -344.88,135.04 -326.38,164.96
  rectangle: -344.88,85.04 -326.38,114.96
  rectangle: -344.88,35.04 -326.38,64.96
  rectangle: -344.88,-14.96 -326.38,14.96
  rectangle: -344.88,-64.96 -326.38,-35.04
  rectangle: -344.88,-114.96 -326.38,-85.04
  rectangle: -344.88,-264.96 -326.38,-235.04
  rectangle: -164.96,376.38 -135.04,394.88
  rectangle: -214.96,376.38 -185.04,394.88
  rectangle: 135.04,-344.88 164.96,-326.38
  rectangle: 185.04,-344.88 214.96,-326.38
  rectangle: -344.88,185.04 -326.38,214.96
  rectangle: -344.88,235.04 -326.38,264.96
  rectangle: -344.88,-164.96 -326.38,-135.04
  rectangle: -344.88,-214.96 -326.38,-185.04
  rectangle: 235.04,-344.88 264.96,-326.38
  rectangle: 376.38,-214.96 394.88,-185.04
  rectangle: 376.38,-164.96 394.88,-135.04
  rectangle: 376.38,185.04 394.88,214.96
  rectangle: 376.38,235.04 394.88,264.96
  rectangle: 235.04,376.38 264.96,394.88
  rectangle: -264.96,376.38 -235.04,394.88
  rectangle: -264.96,-344.88 -235.04,-326.38
  rectangle: 376.38,285.04 394.88,314.96
  rectangle: 285.04,376.38 314.96,394.88
  rectangle: -344.88,285.04 -326.38,314.96
  rectangle: 285.04,-344.88 314.96,-326.38
  lines w2: -277.17,-267.64 -277.17,320.16 ; -273.07,356.69 321.85,356.69 ; -271.89,-306.69 321.85,-306.69 ; 356.69,-271.85 356.69,321.85
  lines w6: -326.38,-269.96 -326.38,321.69 ; -272.17,-326.38 321.69,-326.38 ; -271.69,376.38 321.69,376.38 ; 376.38,-271.69 376.38,326.69

## L52-1 [mil]
pads (52):
  rect 70.87x29.92 smd: 1(-359.45,0) 2(-359.45,-50) 3(-359.45,-100) 4(-359.45,-150) 5(-359.45,-200) 6(-359.45,-250) 7(-359.45,-300) 21(359.45,-300) 22(359.45,-250) 23(359.45,-200) 24(359.45,-150) 25(359.45,-100) 26(359.45,-50) 27(359.45,0) 28(359.45,50) 29(359.45,100) 30(359.45,150) 31(359.45,200) 32(359.45,250) 33(359.45,300) 47(-359.45,300) 48(-359.45,250) 49(-359.45,200) 50(-359.45,150) 51(-359.45,100) 52(-359.45,50)
  rect 29.92x70.87 smd: 8(-300,-359.45) 9(-250,-359.45) 10(-200,-359.45) 11(-150,-359.45) 12(-100,-359.45) 13(-50,-359.45) 14(0,-359.45) 15(50,-359.45) 16(100,-359.45) 17(150,-359.45) 18(200,-359.45) 19(250,-359.45) 20(300,-359.45) 34(300,359.45) 35(250,359.45) 36(200,359.45) 37(150,359.45) 38(100,359.45) 39(50,359.45) 40(0,359.45) 41(-50,359.45) 42(-100,359.45) 43(-150,359.45) 44(-200,359.45) 45(-250,359.45) 46(-300,359.45)
Top Overlay:
  circle w6: c-284.65,0 r19.69
  lines w2: -375.79,-320.55 -327.17,-356.69 ; -356.69,376.38 -327.17,356.69 ; -327.17,-376.38 -327.17,-356.69 ; -327.17,-317.76 -327.17,-356.69 ; -327.17,-282.24 -327.17,-267.76 ; -327.17,-232.24 -327.17,-217.76 ; -327.17,-182.24 -327.17,-167.76 ; -327.17,-132.24 -327.17,-117.76 ; -327.17,-82.24 -327.17,-67.76 ; -327.17,-32.24 -327.17,-17.76 ; -327.17,17.76 -327.17,32.24 ; -327.17,67.76 -327.17,82.24 ; -327.17,117.76 -327.17,132.24 ; -327.17,167.76 -327.17,182.24 ; -327.17,217.76 -327.17,232.24 ; -327.17,267.76 -327.17,282.24 ; -327.17,317.76 -327.17,356.69 ; -317.76,-356.69 -327.17,-356.69 ; -317.76,356.69 -327.17,356.69 ; -282.24,-356.69 -267.76,-356.69 ; -282.24,356.69 -267.76,356.69 ; -232.24,-356.69 -217.76,-356.69 ; -232.24,356.69 -217.76,356.69 ; -182.24,-356.69 -167.76,-356.69 ; -182.24,356.69 -167.76,356.69 ; -132.24,-356.69 -117.76,-356.69 ; -132.24,356.69 -117.76,356.69 ; -82.24,-356.69 -67.76,-356.69 ; -82.24,356.69 -67.76,356.69 ; -32.24,-356.69 -17.76,-356.69 ; -32.24,356.69 -17.76,356.69 ; 17.76,-356.69 32.24,-356.69 ; 17.76,356.69 32.24,356.69 ; 67.76,-356.69 82.24,-356.69 ; 67.76,356.69 82.24,356.69 ; 117.76,-356.69 132.24,-356.69 ; 117.76,356.69 132.24,356.69 ; 167.76,-356.69 182.24,-356.69 ; 167.76,356.69 182.24,356.69 ; 217.76,-356.69 232.24,-356.69 ; 217.76,356.69 232.24,356.69 ; 267.76,-356.69 282.24,-356.69 ; 267.76,356.69 282.24,356.69 ; 317.76,-356.69 346.85,-356.69 356.69,-346.85 ; 317.76,356.69 346.85,356.69 356.69,346.85 ; 356.69,-317.76 356.69,-346.85 ; 356.69,-282.24 356.69,-267.76 ; 356.69,-232.24 356.69,-217.76 ; 356.69,-182.24 356.69,-167.76 ; 356.69,-132.24 356.69,-117.76 ; 356.69,-82.24 356.69,-67.76 ; 356.69,-32.24 356.69,-17.76 ; 356.69,17.76 356.69,32.24 ; 356.69,67.76 356.69,82.24 ; 356.69,117.76 356.69,132.24 ; 356.69,167.76 356.69,182.24 ; 356.69,217.76 356.69,232.24 ; 356.69,267.76 356.69,282.24 ; 356.69,317.76 356.69,346.85 ; 376.38,-356.69 356.69,-346.85 ; 376.38,356.69 356.69,346.85
  lines w6: -376.38,-320.12 -327.17,-376.38 -319.33,-376.38 ; -376.38,-280.67 -376.38,-269.33 ; -376.38,-230.67 -376.38,-219.33 ; -376.38,-180.67 -376.38,-169.33 ; -376.38,-130.67 -376.38,-119.33 ; -376.38,-80.67 -376.38,-69.33 ; -376.38,-30.67 -376.38,-19.33 ; -376.38,19.33 -376.38,30.67 ; -376.38,69.33 -376.38,80.67 ; -376.38,119.33 -376.38,130.67 ; -376.38,169.33 -376.38,180.67 ; -376.38,219.33 -376.38,230.67 ; -376.38,269.33 -376.38,280.67 ; -376.38,319.33 -376.38,356.69 -356.69,376.38 -319.33,376.38 ; -280.67,-376.38 -269.33,-376.38 ; -280.67,376.38 -269.33,376.38 ; -230.67,-376.38 -219.33,-376.38 ; -230.67,376.38 -219.33,376.38 ; -180.67,-376.38 -169.33,-376.38 ; -180.67,376.38 -169.33,376.38 ; -130.67,-376.38 -119.33,-376.38 ; -130.67,376.38 -119.33,376.38 ; -80.67,-376.38 -69.33,-376.38 ; -80.67,376.38 -69.33,376.38 ; -30.67,-376.38 -19.33,-376.38 ; -30.67,376.38 -19.33,376.38 ; 19.33,-376.38 30.67,-376.38 ; 19.33,376.38 30.67,376.38 ; 69.33,-376.38 80.67,-376.38 ; 69.33,376.38 80.67,376.38 ; 119.33,-376.38 130.67,-376.38 ; 119.33,376.38 130.67,376.38 ; 169.33,-376.38 180.67,-376.38 ; 169.33,376.38 180.67,376.38 ; 219.33,-376.38 230.67,-376.38 ; 219.33,376.38 230.67,376.38 ; 269.33,-376.38 280.67,-376.38 ; 269.33,376.38 280.67,376.38 ; 319.33,-376.38 356.69,-376.38 ; 319.33,376.38 356.69,376.38 ; 346.85,-356.69 356.69,-376.38 ; 346.85,356.69 356.69,376.38 ; 376.38,-319.33 376.38,-356.69 356.69,-376.38 ; 376.38,-280.67 376.38,-269.33 ; 376.38,-230.67 376.38,-219.33 ; 376.38,-180.67 376.38,-169.33 ; 376.38,-130.67 376.38,-119.33 ; 376.38,-80.67 376.38,-69.33 ; 376.38,-30.67 376.38,-19.33 ; 376.38,19.33 376.38,30.67 ; 376.38,69.33 376.38,80.67 ; 376.38,119.33 376.38,130.67 ; 376.38,169.33 376.38,180.67 ; 376.38,219.33 376.38,230.67 ; 376.38,269.33 376.38,280.67 ; 376.38,319.33 376.38,356.69 356.69,376.38
Mechanical 16:
  rectangle: -164.96,376.38 -135.04,394.88
  rectangle: -114.96,376.38 -85.04,394.88
  rectangle: -64.96,376.38 -35.04,394.88
  rectangle: -14.96,376.38 14.96,394.88
  rectangle: 35.04,376.38 64.96,394.88
  rectangle: 85.04,376.38 114.96,394.88
  rectangle: 135.04,376.38 164.96,394.88
  rectangle: 376.38,85.04 394.88,114.96
  rectangle: 376.38,35.04 394.88,64.96
  rectangle: 376.38,-14.96 394.88,14.96
  rectangle: 376.38,-64.96 394.88,-35.04
  rectangle: 376.38,-114.96 394.88,-85.04
  rectangle: 376.38,-164.96 394.88,-135.04
  rectangle: 376.38,-314.96 394.88,-285.04
  rectangle: -264.96,-394.88 -235.04,-376.38
  rectangle: -214.96,-394.88 -185.04,-376.38
  rectangle: -164.96,-394.88 -135.04,-376.38
  rectangle: -114.96,-394.88 -85.04,-376.38
  rectangle: -64.96,-394.88 -35.04,-376.38
  rectangle: -14.96,-394.88 14.96,-376.38
  rectangle: 35.04,-394.88 64.96,-376.38
  rectangle: -394.88,85.04 -376.38,114.96
  rectangle: -394.88,35.04 -376.38,64.96
  rectangle: -394.88,-14.96 -376.38,14.96
  rectangle: -394.88,-64.96 -376.38,-35.04
  rectangle: -394.88,-114.96 -376.38,-85.04
  rectangle: -394.88,-164.96 -376.38,-135.04
  rectangle: -394.88,-314.96 -376.38,-285.04
  rectangle: -214.96,376.38 -185.04,394.88
  rectangle: -264.96,376.38 -235.04,394.88
  rectangle: 85.04,-394.88 114.96,-376.38
  rectangle: 135.04,-394.88 164.96,-376.38
  rectangle: -394.88,135.04 -376.38,164.96
  rectangle: -394.88,185.04 -376.38,214.96
  rectangle: -394.88,-214.96 -376.38,-185.04
  rectangle: -394.88,-264.96 -376.38,-235.04
  rectangle: 185.04,-394.88 214.96,-376.38
  rectangle: 376.38,-264.96 394.88,-235.04
  rectangle: 376.38,-214.96 394.88,-185.04
  rectangle: 376.38,135.04 394.88,164.96
  rectangle: 376.38,185.04 394.88,214.96
  rectangle: 185.04,376.38 214.96,394.88
  rectangle: -314.96,376.38 -285.04,394.88
  rectangle: -314.96,-394.88 -285.04,-376.38
  rectangle: 235.04,376.38 264.96,394.88
  rectangle: 235.04,-394.88 264.96,-376.38
  rectangle: 285.04,-394.88 314.96,-376.38
  rectangle: 285.04,376.38 314.96,394.88
  rectangle: -394.88,235.04 -376.38,264.96
  rectangle: -394.88,285.04 -376.38,314.96
  rectangle: 376.38,235.04 394.88,264.96
  rectangle: 376.38,285.04 394.88,314.96
  lines w2: -327.17,-320.67 -327.17,322.24 ; -322.28,-356.69 321.85,-356.69 ; -320.04,356.69 326.85,356.69 ; 356.69,-321.85 356.69,326.85
  lines w6: -376.38,-319.96 -376.38,321.69 ; -322.17,-376.38 321.69,-376.38 ; -321.69,376.38 326.69,376.38 ; 376.38,-321.69 376.38,326.69